# Altium integrated library Infineon_Power_Smart_Low-Side_&_High-Side_Switches.IntLib: 238 symbols (part 14 of 14)
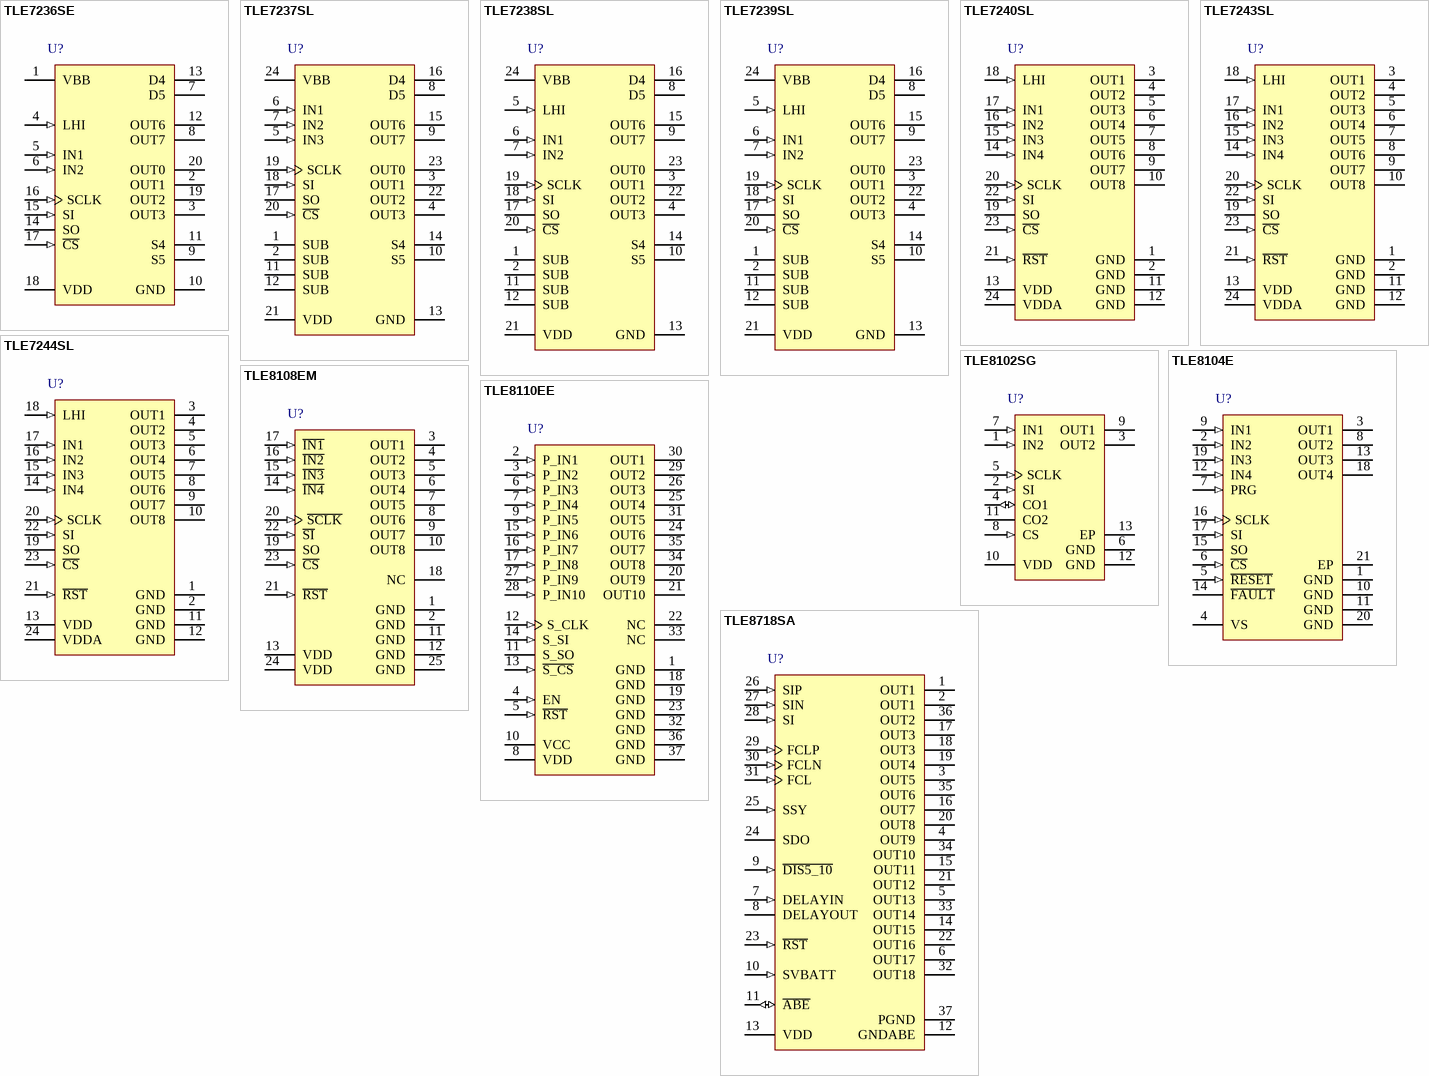
[diagram p20: symbols TLE7236SE to TLE8718SA]

## TLE8718SA
designator U?
Smart 18 Channel Low Side Switch with Micro Second Bus with Selectable Over-Current Protection, -40 to 150 degC, PG-DSO-36-26, Reel, Green; Manufacturer: Infineon; PartNumber: TLE8718SA; Channels: 18; Green: TRUE; Thermal class: Heatslug down; toff (max): 10 - 15 us; VDD: 5 V; VDS(CL): 55 V; VDS(CL) (min): 50 V; DatasheetVersion: V1.1; PackageVersion: Aug-09; PackageReference: PG-DSO-36-26; PackageDescription: 36-Pin Plastic (Green) Dual Small Outline Package, 15.9 x 11 mm Body, 0.65 mm Pitch; Supplier 1: Mouser; Supplier Part Number 1: N/A; Halogen-free: TRUE; Over-Current Protection: Selectable; Packing: Reel; ton (max): 10 - 15 us; Mounting Technology: Surface Mount; ComponentLink1Description: Manufacturer URL; ComponentLink1URL: http://www.infineon.com/; ComponentLink2Description: Datasheet; ComponentLink2URL: http://www.infineon.com/dgdl/TLE8718SA_DS_v1+1.pdf?folderId=db3a30431400ef68011421b54e2e0564&fileId=db3a304339bdde1f0139c4c4cb7c58df&sId=db3a30433d68e984013d80c4e79a73ab; ComponentLink3Description: Package Specification; ComponentLink3URL: http://www.infineon.com/dgdl/ITS4880R_DS_11.pdf?folderId=db3a304412b407950112b408e8c90004&fileId=db3a304412b407950112b4295fb340cf&sId=db3a30433db6f09f013dc85930135028
footprint INF-PG-DSO-36-26_N (SOP, 36-Leads, Body 15.9x11mm, Pitch 0.65mm, Thermal Pad 16x6mm, IPC Medium Density)
footprint INF-PG-DSO-36-26_L (SOP, 36-Leads, Body 15.9x11mm, Pitch 0.65mm, Thermal Pad 16x6mm, IPC High Density)
footprint INF-PG-DSO-36-26_M (SOP, 36-Leads, Body 15.9x11mm, Pitch 0.65mm, Thermal Pad 16x6mm, IPC Low Density)
pins: 1 OUT1 (power) "Drain Connection of Power stage. Short circuit proof Individually protected against overtemperature diagnostic functions control via MSC Clamping of the output voltage by zener diodes", 2 OUT1 (power) "Drain Connection of Power stage. Short circuit proof Individually protected against overtemperature diagnostic functions control via MSC Clamping of the output voltage by zener diodes", 3 OUT5 (power) "Drain Connection of Power stage. Short circuit proof Individually protected against overtemperature diagnostic functions control via MSC Clamping of the output voltage by zener diodes", 4 OUT9 (power) "Drain Connection of Power stage. Short circuit proof Individually protected against overtemperature diagnostic functions control via MSC Clamping of the output voltage by zener diodes", 5 OUT13 (power) "Drain Connection of Power stage. Short circuit proof Individually protected against overtemperature diagnostic functions control via MSC Clamping of the output voltage by zener diodes", 6 OUT17 (power) "Drain Connection of Power stage. Short circuit proof Individually protected against overtemperature diagnostic functions control via MSC Clamping of the output voltage by zener diodes", 7 DELAYIN (in) "DELAYIN input (internal pull-down, active low): Disable pin for DELAYOUT after the configurable filtering time (tDELAYIN) has expired and Reset pin for OUT15 and OUT16. The thresholds are defined in Chapter 7.", 8 DELAYOUT (oc) "Open drain output generating active low level if DELAYIN is low level (below VDELAYIN_L) and tDELYAIN has expired, input ABE disables stages or VDD monitoring has detected a supply voltage failure. See Chapter 7.", 9 ~{DIS5_10} (in) "Disable pin for OUT5...OUT10 (low level disables OUT5...OUT10 after filtering time (tDIS5_10) has expired). The thresholds are defined in Chapter 7 (active low, internal pull-up)", 10 SVBATT (in) "Sense Battery Voltage Monitoring Pin. Connect to VBAT. Used to activate factory test mode. See Chapter 6.4.", 11 ~{ABE} (io) "Bidirectional pin (active low). Indicates VDD overvoltage and undervoltage condition by pulling ABE-pin low. If forced to low from externally all stages are turned off.", 12 GNDABE (power) "Sense ground. Reference ground for VDD monitoring only. Connect this pin to ground.", 13 VDD (power) "Supply voltage 5V", 14 OUT15 (power) "Drain Connection of Power stage. Short circuit proof Individually protected against overtemperature diagnostic functions control via MSC Clamping of the output voltage by zener diodes", 15 OUT11 (power) "Drain Connection of Power stage. Short circuit proof Individually protected against overtemperature diagnostic functions control via MSC Clamping of the output voltage by zener diodes", 16 OUT7 (power) "Drain Connection of Power stage. Short circuit proof Individually protected against overtemperature diagnostic functions control via MSC Clamping of the output voltage by zener diodes", 17 OUT3 (power) "Drain Connection of Power stage. Short circuit proof Individually protected against overtemperature diagnostic functions control via MSC Clamping of the output voltage by zener diodes", 18 OUT3 (power) "Drain Connection of Power stage. Short circuit proof Individually protected against overtemperature diagnostic functions control via MSC Clamping of the output voltage by zener diodes", 19 OUT4 (power) "Drain Connection of Power stage. Short circuit proof Individually protected against overtemperature diagnostic functions control via MSC Clamping of the output voltage by zener diodes", 20 OUT8 (power) "Drain Connection of Power stage. Short circuit proof Individually protected against overtemperature diagnostic functions control via MSC Clamping of the output voltage by zener diodes", 21 OUT12 (power) "Drain Connection of Power stage. Short circuit proof Individually protected against overtemperature diagnostic functions control via MSC Clamping of the output voltage by zener diodes", 22 OUT16 (power) "Drain Connection of Power stage. Short circuit proof Individually protected against overtemperature diagnostic functions control via MSC Clamping of the output voltage by zener diodes", 23 ~{RST} (in) "Reset input (active low, internal pull-up). Shuts down all stages regardless of their input signals. Clears the fault registers and resets the MSC interface registers (partially).", 24 SDO (oc) "MSC interface. Upstream data, open drain output", 25 SSY (in) "MSC interface. Chip select and synchronization strobe", 26 SIP (in) "MSC interface. Downstream data positive for differential interface", 27 SIN (in) "MSC interface. Downstream data negative for differential interface", 28 SI (in) "MSC interface optional downstream data input for single ended interface", 29 FCLP (in) "MSC interface. Clock positive for differential interface", 30 FCLN (in) "MSC interface. Clock negative for differential interface", 31 FCL (in) "MSC interface optional clock input for single ended interface", 32 OUT18 (power) "Drain Connection of Power stage. Short circuit proof Individually protected against overtemperature diagnostic functions control via MSC Clamping of the output voltage by zener diodes", 33 OUT14 (power) "Drain Connection of Power stage. Short circuit proof Individually protected against overtemperature diagnostic functions control via MSC Clamping of the output voltage by zener diodes", 34 OUT10 (power) "Drain Connection of Power stage. Short circuit proof Individually protected against overtemperature diagnostic functions control via MSC Clamping of the output voltage by zener diodes", 35 OUT6 (power) "Drain Connection of Power stage. Short circuit proof Individually protected against overtemperature diagnostic functions control via MSC Clamping of the output voltage by zener diodes", 36 OUT2 (power) "Drain Connection of Power stage. Short circuit proof Individually protected against overtemperature diagnostic functions control via MSC Clamping of the output voltage by zener diodes", 37 PGND (power) "Power Ground. Internally used as PGND. Analogue circuits except VDD-monitoring refer to PGND. Connect to Ground."